# EAGLE library part HDR_2X03 (library sj_connectors)
2x03 - 0.1" Pin Header
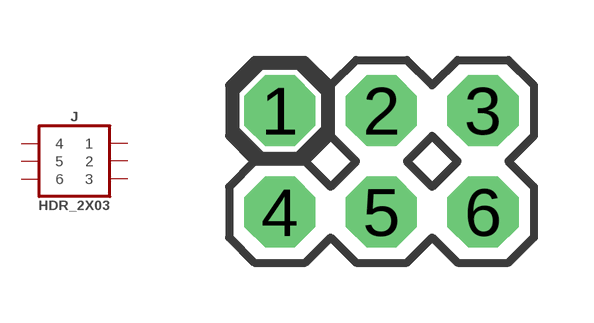
[diagram p5: symbol with the pads of HDR_2X03; footprint HDR_2X03]

Designator prefix J

## HDR_2X03  [HDR_2X03]
1  1  pas
2  2  pas
3  3  pas
4  4  pas
5  5  pas
6  6  pas

## Footprint HDR_2X03 (pad centres in mm)
2x03 - 0.1" Pin Header Package
drill 0.838 pad 1.778 octagon: 1 0,0; 2 2.54,0; 3 5.08,0; 4 0,-2.54; 5 2.54,-2.54; 6 5.08,-2.54